# Altium footprint library PCB - CONNECTOR - JST - JST XH S4B-XH-SM4-TB.PCBLIB: 1 footprints
Each footprint in its own frame and in the unit in brackets; x right, y up, seen from the top. Pads: shape width x height; smd on the part's side, far side on the other; paste and mask are expansions set on the pad; w line width, h text height; cw(c..) or ccw(c..) is an arc to the next point about the centre after c.
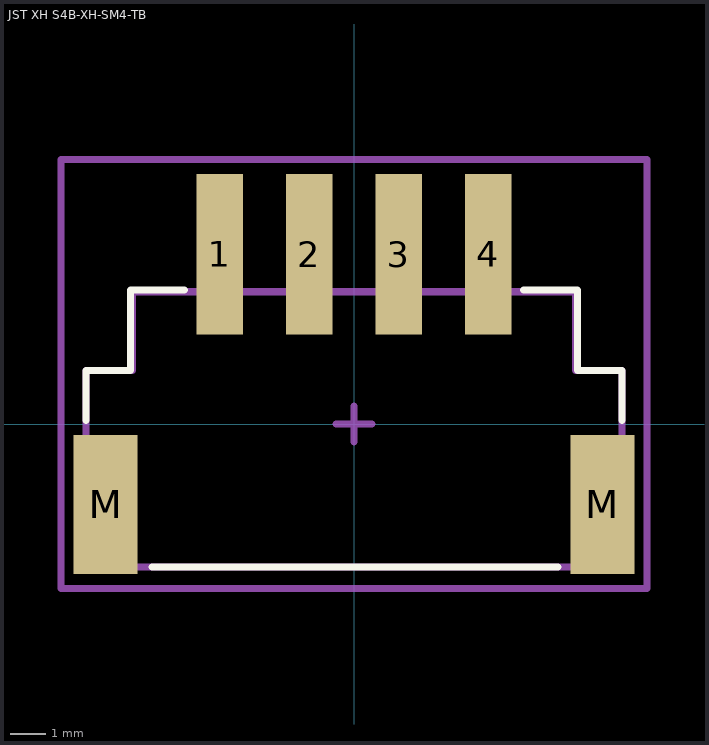
[diagram p0: the footprint, top view; thin cyan lines are the x and y axes]

## JST XH S4B-XH-SM4-TB [mm] "CONN HEADER SMD R/A 4POS 2.5MM"
height 6
pads (6):
  rect 1.3x4.5 smd: 1(-3.75,4.75) 2(-1.25,4.75) 3(1.25,4.75) 4(3.75,4.75)
  rect 1.8x3.9 smd: M(-6.95,-2.25) M(6.95,-2.25)
Top Overlay:
  lines w0.2: -7.5,0.1 -7.5,1.5 -6.25,1.5 -6.25,3.75 -4.75,3.75 ; -5.65,-4 5.7,-4 ; 4.75,3.75 6.25,3.75 6.25,1.5 7.5,1.5 7.5,0.1
Mechanical 13:
  lines w0.2: -7.5,-4 7.5,-4 7.5,1.5 6.2,1.5 6.2,3.7 -6.2,3.7 -6.2,1.5 -7.5,1.5 -7.5,-4
Mechanical 15:
  lines w0.2: -0.5,0 0.5,0 ; 0,-0.5 0,0.5 ; -8.2,-4.6 -8.2,7.4 8.2,7.4 8.2,-4.6 -8.2,-4.6
3D body "JST - S4B-XH-SM4-TB.step": height 6, standoff 0, extent -7.475,-4 7.475,6